# Altium schematic symbol library GRM0335C1H120FA01D.SchLib: 1 symbol
Pins are listed as number, name and electrical type; pins without a type are passive.

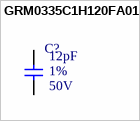
[diagram p0: symbol GRM0335C1H120FA01D]

## GRM0335C1H120FA01D
designator C?  Rated Voltage: 50V  Tolerance: 1%  Capacitence: 12pF  (hidden comment: GRM0335C1H120FA01D)
CAP CER 12PF 50V C0G/NP0 0201; MFR: Murata Electronics; Temperature Coefficient: C0G, NP0; PN: GRM0335C1H120FA01D; ComponentLink1Description: Datasheet; ComponentLink1URL: https://search.murata.co.jp/Ceramy/image/img/A01X/G101/ENG/GRM0335C1H120FA01-01.pdf; Package: 0201; Footprint: C0201; Supplier 1: Digi-Key; Supplier Part Number 1: 490-GRM0335C1H120FA01DCT-ND
footprint C0201
pins: 1, 2